# Altium schematic symbol library nut.SchLib: 1 symbol
Pins are listed as number, name and electrical type; pins without a type are passive.

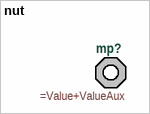
[diagram p0: symbol nut]

## nut
designator mp?  (mechanical)
=Description